# Altium schematic symbol library kmilo17pet-TI_MSP430.SchLib: 1463 symbols (part 47 of 130)
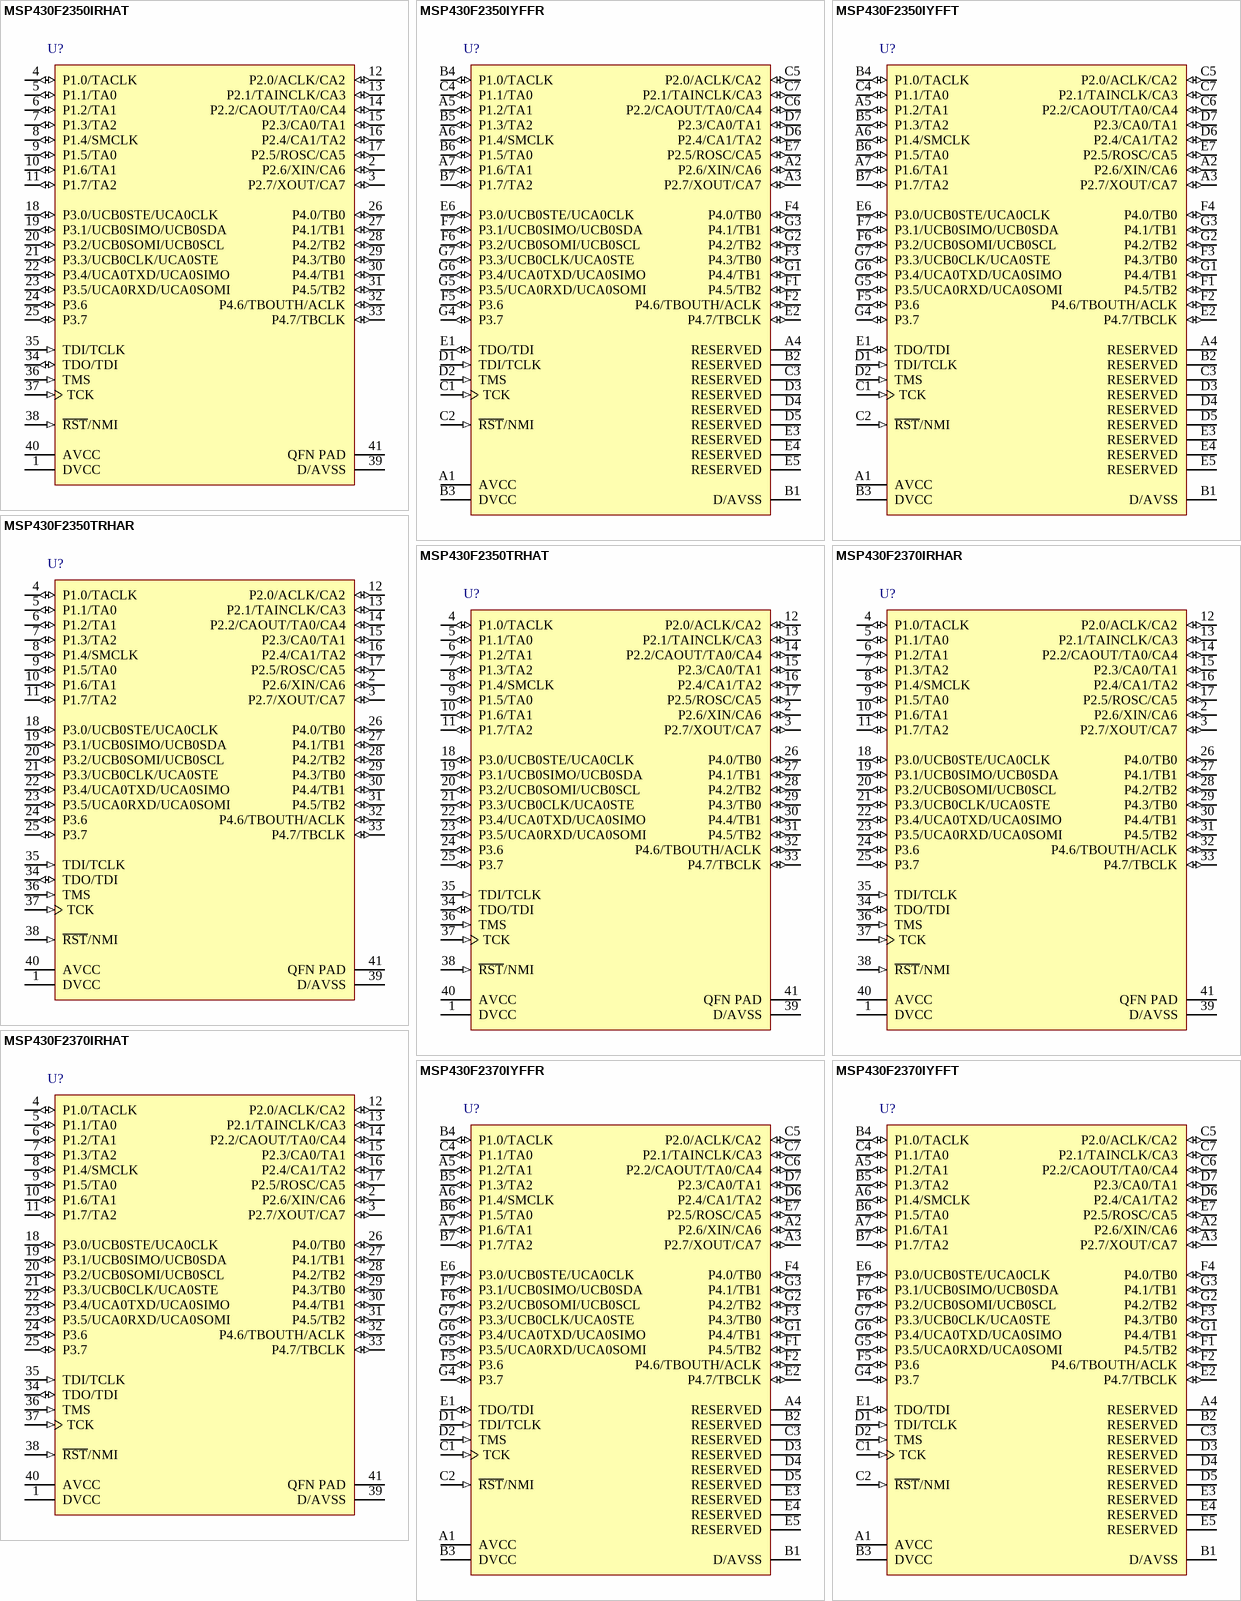
[diagram p260: symbols MSP430F2350IRHAT to MSP430F2370IYFFT]

## MSP430F2350IYFFT
designator U?
16 MHz Mixed Signal Microcontroller with 16 KB Flash, 2048 B SRAM and 32 GPIOs, -40 to 85 degC, 49-pin BGA (YFF), Green (RoHS & no Sb/Br); Manufacturer: Texas Instruments; PartNumber: MSP430F2350IYFFT; ADC: Slope; Brown Out Reset: Yes; Flash(KB): 16; GPIO: 32; Multiplier: 16x16; SRAM(B): 2048; SubFamily: 2 Series, Extended Temp; Timers - 16-bit: 2; USCI_A (UART/LIN/IrDA/SPI): 1; DatasheetVersion: SLAS518E; PackageVersion: 4207625-16/AH; PackageReference: YFF49; PackageDescription: 49-Ball Silicon Grid Array, Body 3.2 x 3.2 mm, Pitch 0.4 mm; Supplier 1: Digi-Key; Supplier Part Number 1: MSP430F2350IYFFR-ND; Supplier 2: Newark; Supplier Part Number 2: 64R0271; Supplier 3: Mouser; Supplier Part Number 3: 595-MSP430F2350IYFFR; Comparators: Yes; Eco-Plan: Green (RoHS & no Sb/Br); Frequency(MHz): 16; USCI_B (I2C & SPI): 1; Watchdog: Yes; Mounting Technology: Surface Mount; ComponentLink1Description: Manufacturer URL; ComponentLink1URL: http://www.ti.com/; ComponentLink2Description: Datasheet; ComponentLink2URL: http://www.ti.com/general/docs/lit/getliterature.tsp?genericPartNumber=MSP430F2350&fileType=pdf; ComponentLink3Description: Package Specification; ComponentLink3URL: http://www.ti.com/lit/ds/symlink/msp430f2350.pdf
footprint TI-YFF49-3200X3200DE (BGA, 49-Balls, Body 3.2x3.2mm, Pitch 0.4mm)
pins: A1 AVCC (power) "Analog supply voltage, positive terminal", A2 P2.6/XIN/CA6 (io), A3 P2.7/XOUT/CA7 (io), A4 RESERVED "BGA package GND balls. Connection to DVSS/AVSS is recommended.", A5 P1.2/TA1 (io), A6 P1.4/SMCLK (io), A7 P1.6/TA1 (io), B1 D/AVSS (power), B2 RESERVED "BGA package GND balls. Connection to DVSS/AVSS is recommended.", B3 DVCC (power) "Digital supply voltage, positive terminal. Supplies all digital parts", B4 P1.0/TACLK (io), B5 P1.3/TA2 (io), B6 P1.5/TA0 (io), B7 P1.7/TA2 (io), C1 TCK (in) "Test clock. TCK is the clock input port for device programming and test.", C2 ~{RST}/NMI (in), C3 RESERVED "BGA package GND balls. Connection to DVSS/AVSS is recommended.", C4 P1.1/TA0 (io), C5 P2.0/ACLK/CA2 (io), C6 P2.2/CAOUT/TA0/CA4 (io), C7 P2.1/TAINCLK/CA3 (io), D1 TDI/TCLK (in), D2 TMS (in) "Test mode select. TMS is used as an input port for device programming and test.", D3 RESERVED "BGA package GND balls. Connection to DVSS/AVSS is recommended.", D4 RESERVED "BGA package GND balls. Connection to DVSS/AVSS is recommended.", D5 RESERVED "BGA package GND balls. Connection to DVSS/AVSS is recommended.", D6 P2.4/CA1/TA2 (io), D7 P2.3/CA0/TA1 (io), E1 TDO/TDI (io), E2 P4.7/TBCLK (io), E3 RESERVED "BGA package GND balls. Connection to DVSS/AVSS is recommended.", E4 RESERVED "BGA package GND balls. Connection to DVSS/AVSS is recommended.", E5 RESERVED "BGA package GND balls. Connection to DVSS/AVSS is recommended.", E6 P3.0/UCB0STE/UCA0CLK (io), E7 P2.5/ROSC/CA5 (io), F1 P4.5/TB2 (io), F2 P4.6/TBOUTH/ACLK (io), F3 P4.3/TB0 (io), F4 P4.0/TB0 (io), F5 P3.6 (io) "General-purpose digital I/O pin", F6 P3.2/UCB0SOMI/UCB0SCL (io), F7 P3.1/UCB0SIMO/UCB0SDA (io), G1 P4.4/TB1 (io), G2 P4.2/TB2 (io), G3 P4.1/TB1 (io), G4 P3.7 (io) "General-purpose digital I/O pin", G5 P3.5/UCA0RXD/UCA0SOMI (io), G6 P3.4/UCA0TXD/UCA0SIMO (io), G7 P3.3/UCB0CLK/UCA0STE (io)

## MSP430F2350TRHAR
designator U?
16 MHz Mixed Signal Microcontroller with 16 KB Flash, 2048 B SRAM and 32 GPIOs, -40 to 105 degC, 40-pin QFN (RHA), Green (RoHS & no Sb/Br); Manufacturer: Texas Instruments; PartNumber: MSP430F2350TRHAR; ADC: Slope; Brown Out Reset: Yes; Flash(KB): 16; GPIO: 32; Multiplier: 16x16; SRAM(B): 2048; SubFamily: 2 Series, Extended Temp; Timers - 16-bit: 2; USCI_A (UART/LIN/IrDA/SPI): 1; DatasheetVersion: SLAS518E; PackageVersion: 4204276/E; PackageReference: RHA40-4150X4150TP; PackageDescription: 40-Pin Plastic Flat Pack, Body 6 x 6 mm, Pitch 0.5 mm; Supplier 1: Digi-Key; Supplier Part Number 1: MSP430F2350IYFFT-ND; Supplier 2: Mouser; Supplier Part Number 2: 595-MSP430F2350IYFFT; Comparators: Yes; Eco-Plan: Green (RoHS & no Sb/Br); Frequency(MHz): 16; USCI_B (I2C & SPI): 1; Watchdog: Yes; Mounting Technology: Surface Mount; Code_JEDEC: MO-220; ComponentLink1Description: Manufacturer URL; ComponentLink1URL: http://www.ti.com/; ComponentLink2Description: Datasheet; ComponentLink2URL: http://www.ti.com/general/docs/lit/getliterature.tsp?genericPartNumber=MSP430F2350&fileType=pdf; ComponentLink3Description: Package Specification; ComponentLink3URL: http://www.ti.com/litv/pdf/mpqf135c
footprint TI-RHA40-4150X4150TP_N (QFN, 40-Leads, Body 6x6mm, Pitch 0.5mm, Thermal Pad 4.15x4.15mm, IPC Medium Density)
pins: 1 DVCC (power) "Digital supply voltage, positive terminal. Supplies all digital parts.", 2 P2.6/XIN/CA6 (io), 3 P2.7/XOUT/CA7 (io), 4 P1.0/TACLK (io), 5 P1.1/TA0 (io), 6 P1.2/TA1 (io), 7 P1.3/TA2 (io), 8 P1.4/SMCLK (io), 9 P1.5/TA0 (io), 10 P1.6/TA1 (io), 11 P1.7/TA2 (io), 12 P2.0/ACLK/CA2 (io), 13 P2.1/TAINCLK/CA3 (io), 14 P2.2/CAOUT/TA0/CA4 (io), 15 P2.3/CA0/TA1 (io), 16 P2.4/CA1/TA2 (io), 17 P2.5/ROSC/CA5 (io), 18 P3.0/UCB0STE/UCA0CLK (io), 19 P3.1/UCB0SIMO/UCB0SDA (io), 20 P3.2/UCB0SOMI/UCB0SCL (io), 21 P3.3/UCB0CLK/UCA0STE (io), 22 P3.4/UCA0TXD/UCA0SIMO (io), 23 P3.5/UCA0RXD/UCA0SOMI (io), 24 P3.6 (io) "General-purpose digital I/O pin", 25 P3.7 (io) "General-purpose digital I/O pin", 26 P4.0/TB0 (io), 27 P4.1/TB1 (io), 28 P4.2/TB2 (io), 29 P4.3/TB0 (io), 30 P4.4/TB1 (io), 31 P4.5/TB2 (io), 32 P4.6/TBOUTH/ACLK (io), 33 P4.7/TBCLK (io), 34 TDO/TDI (io), 35 TDI/TCLK (in), 36 TMS (in) "Test mode select. TMS is used as an input port for device programming and test.", 37 TCK (in) "Test clock. TCK is the clock input port for device programming and test.", 38 ~{RST}/NMI (in), 39 D/AVSS (power), 40 AVCC (power) "Analog supply voltage, positive terminal", 41 QFN PAD (power) "QFN package pad. Connection to D/AVSS recommended."

## MSP430F2350TRHAT
designator U?
16 MHz Mixed Signal Microcontroller with 16 KB Flash, 2048 B SRAM and 32 GPIOs, -40 to 105 degC, 40-pin QFN (RHA), Green (RoHS & no Sb/Br); Manufacturer: Texas Instruments; PartNumber: MSP430F2350TRHAT; ADC: Slope; Brown Out Reset: Yes; Flash(KB): 16; GPIO: 32; Multiplier: 16x16; SRAM(B): 2048; SubFamily: 2 Series, Extended Temp; Timers - 16-bit: 2; USCI_A (UART/LIN/IrDA/SPI): 1; DatasheetVersion: SLAS518E; PackageVersion: 4204276/E; PackageReference: RHA40-4150X4150TP; PackageDescription: 40-Pin Plastic Flat Pack, Body 6 x 6 mm, Pitch 0.5 mm; Supplier 1: Digi-Key; Supplier Part Number 1: MSP430F2350TRHAR-ND; Supplier 2: Newark; Supplier Part Number 2: 45M9660; Supplier 3: Mouser; Supplier Part Number 3: 595-MSP430F2350TRHAR; Comparators: Yes; Eco-Plan: Green (RoHS & no Sb/Br); Frequency(MHz): 16; USCI_B (I2C & SPI): 1; Watchdog: Yes; Mounting Technology: Surface Mount; Code_JEDEC: MO-220; ComponentLink1Description: Manufacturer URL; ComponentLink1URL: http://www.ti.com/; ComponentLink2Description: Datasheet; ComponentLink2URL: http://www.ti.com/general/docs/lit/getliterature.tsp?genericPartNumber=MSP430F2350&fileType=pdf; ComponentLink3Description: Package Specification; ComponentLink3URL: http://www.ti.com/litv/pdf/mpqf135c
footprint TI-RHA40-4150X4150TP_N (QFN, 40-Leads, Body 6x6mm, Pitch 0.5mm, Thermal Pad 4.15x4.15mm, IPC Medium Density)
pins: 1 DVCC (power) "Digital supply voltage, positive terminal. Supplies all digital parts.", 2 P2.6/XIN/CA6 (io), 3 P2.7/XOUT/CA7 (io), 4 P1.0/TACLK (io), 5 P1.1/TA0 (io), 6 P1.2/TA1 (io), 7 P1.3/TA2 (io), 8 P1.4/SMCLK (io), 9 P1.5/TA0 (io), 10 P1.6/TA1 (io), 11 P1.7/TA2 (io), 12 P2.0/ACLK/CA2 (io), 13 P2.1/TAINCLK/CA3 (io), 14 P2.2/CAOUT/TA0/CA4 (io), 15 P2.3/CA0/TA1 (io), 16 P2.4/CA1/TA2 (io), 17 P2.5/ROSC/CA5 (io), 18 P3.0/UCB0STE/UCA0CLK (io), 19 P3.1/UCB0SIMO/UCB0SDA (io), 20 P3.2/UCB0SOMI/UCB0SCL (io), 21 P3.3/UCB0CLK/UCA0STE (io), 22 P3.4/UCA0TXD/UCA0SIMO (io), 23 P3.5/UCA0RXD/UCA0SOMI (io), 24 P3.6 (io) "General-purpose digital I/O pin", 25 P3.7 (io) "General-purpose digital I/O pin", 26 P4.0/TB0 (io), 27 P4.1/TB1 (io), 28 P4.2/TB2 (io), 29 P4.3/TB0 (io), 30 P4.4/TB1 (io), 31 P4.5/TB2 (io), 32 P4.6/TBOUTH/ACLK (io), 33 P4.7/TBCLK (io), 34 TDO/TDI (io), 35 TDI/TCLK (in), 36 TMS (in) "Test mode select. TMS is used as an input port for device programming and test.", 37 TCK (in) "Test clock. TCK is the clock input port for device programming and test.", 38 ~{RST}/NMI (in), 39 D/AVSS (power), 40 AVCC (power) "Analog supply voltage, positive terminal", 41 QFN PAD (power) "QFN package pad. Connection to D/AVSS recommended."

## MSP430F2370IRHAR
designator U?
16 MHz Mixed Signal Microcontroller with 32 KB Flash, 2048 B SRAM and 32 GPIOs, -40 to 85 degC, 40-pin QFN (RHA), Green (RoHS & no Sb/Br); Manufacturer: Texas Instruments; PartNumber: MSP430F2370IRHAR; ADC: Slope; Brown Out Reset: Yes; Flash(KB): 32; Frequency(MHz): 16; Multiplier: 16x16; SRAM(B): 2048; SubFamily: 2 Series; Timers - 16-bit: 2; USCI_A (UART/LIN/IrDA/SPI): 1; DatasheetVersion: SLAS518E; PackageVersion: 4204276/E; PackageReference: RHA40-4150X4150TP; PackageDescription: 40-Pin Plastic Flat Pack, Body 6 x 6 mm, Pitch 0.5 mm; Supplier 1: Digi-Key; Supplier Part Number 1: 296-26214-2-ND; Supplier 2: Digi-Key; Supplier Part Number 2: 296-26214-1-ND; Supplier 3: Digi-Key; Supplier Part Number 3: 296-26214-6-ND; Supplier 4: Farnell; Supplier Part Number 4: 1649433; Supplier 5: Newark; Supplier Part Number 5: 65M1700; Supplier 6: Mouser; Supplier Part Number 6: 595-MSP430F235TRGCT; Comparators: Yes; Eco-Plan: Green (RoHS & no Sb/Br); GPIO: 32; USCI_B (I2C & SPI): 1; Watchdog: Yes; Mounting Technology: Surface Mount; Code_JEDEC: MO-220; ComponentLink1Description: Manufacturer URL; ComponentLink1URL: http://www.ti.com/; ComponentLink2Description: Datasheet; ComponentLink2URL: http://www.ti.com/general/docs/lit/getliterature.tsp?genericPartNumber=MSP430F2370&fileType=pdf; ComponentLink3Description: Package Specification; ComponentLink3URL: http://www.ti.com/litv/pdf/mpqf135c
footprint TI-RHA40-4150X4150TP_N (QFN, 40-Leads, Body 6x6mm, Pitch 0.5mm, Thermal Pad 4.15x4.15mm, IPC Medium Density)
pins: 1 DVCC (power) "Digital supply voltage, positive terminal. Supplies all digital parts.", 2 P2.6/XIN/CA6 (io), 3 P2.7/XOUT/CA7 (io), 4 P1.0/TACLK (io), 5 P1.1/TA0 (io), 6 P1.2/TA1 (io), 7 P1.3/TA2 (io), 8 P1.4/SMCLK (io), 9 P1.5/TA0 (io), 10 P1.6/TA1 (io), 11 P1.7/TA2 (io), 12 P2.0/ACLK/CA2 (io), 13 P2.1/TAINCLK/CA3 (io), 14 P2.2/CAOUT/TA0/CA4 (io), 15 P2.3/CA0/TA1 (io), 16 P2.4/CA1/TA2 (io), 17 P2.5/ROSC/CA5 (io), 18 P3.0/UCB0STE/UCA0CLK (io), 19 P3.1/UCB0SIMO/UCB0SDA (io), 20 P3.2/UCB0SOMI/UCB0SCL (io), 21 P3.3/UCB0CLK/UCA0STE (io), 22 P3.4/UCA0TXD/UCA0SIMO (io), 23 P3.5/UCA0RXD/UCA0SOMI (io), 24 P3.6 (io) "General-purpose digital I/O pin", 25 P3.7 (io) "General-purpose digital I/O pin", 26 P4.0/TB0 (io), 27 P4.1/TB1 (io), 28 P4.2/TB2 (io), 29 P4.3/TB0 (io), 30 P4.4/TB1 (io), 31 P4.5/TB2 (io), 32 P4.6/TBOUTH/ACLK (io), 33 P4.7/TBCLK (io), 34 TDO/TDI (io), 35 TDI/TCLK (in), 36 TMS (in) "Test mode select. TMS is used as an input port for device programming and test.", 37 TCK (in) "Test clock. TCK is the clock input port for device programming and test.", 38 ~{RST}/NMI (in), 39 D/AVSS (power), 40 AVCC (power) "Analog supply voltage, positive terminal", 41 QFN PAD (power) "QFN package pad. Connection to D/AVSS recommended."

## MSP430F2370IRHAT
designator U?
16 MHz Mixed Signal Microcontroller with 32 KB Flash, 2048 B SRAM and 32 GPIOs, -40 to 85 degC, 40-pin QFN (RHA), Green (RoHS & no Sb/Br); Manufacturer: Texas Instruments; PartNumber: MSP430F2370IRHAT; ADC: Slope; Brown Out Reset: Yes; Flash(KB): 32; Frequency(MHz): 16; Multiplier: 16x16; SRAM(B): 2048; SubFamily: 2 Series; Timers - 16-bit: 2; USCI_A (UART/LIN/IrDA/SPI): 1; DatasheetVersion: SLAS518E; PackageVersion: 4204276/E; PackageReference: RHA40-4150X4150TP; PackageDescription: 40-Pin Plastic Flat Pack, Body 6 x 6 mm, Pitch 0.5 mm; Supplier 1: Digi-Key; Supplier Part Number 1: 296-24340-2-ND; Supplier 2: Digi-Key; Supplier Part Number 2: 296-24340-1-ND; Supplier 3: Digi-Key; Supplier Part Number 3: 296-24340-6-ND; Supplier 4: Farnell; Supplier Part Number 4: 1848736; Supplier 5: Newark; Supplier Part Number 5: 82R7755; Supplier 6: Newark; Supplier Part Number 6: 45M9662; Supplier 7: Mouser; Supplier Part Number 7: 595-MSP430F2370IRHAR; Comparators: Yes; Eco-Plan: Green (RoHS & no Sb/Br); GPIO: 32; USCI_B (I2C & SPI): 1; Watchdog: Yes; Mounting Technology: Surface Mount; Code_JEDEC: MO-220; ComponentLink1Description: Manufacturer URL; ComponentLink1URL: http://www.ti.com/; ComponentLink2Description: Datasheet; ComponentLink2URL: http://www.ti.com/general/docs/lit/getliterature.tsp?genericPartNumber=MSP430F2370&fileType=pdf; ComponentLink3Description: Package Specification; ComponentLink3URL: http://www.ti.com/litv/pdf/mpqf135c
footprint TI-RHA40-4150X4150TP_N (QFN, 40-Leads, Body 6x6mm, Pitch 0.5mm, Thermal Pad 4.15x4.15mm, IPC Medium Density)
pins: 1 DVCC (power) "Digital supply voltage, positive terminal. Supplies all digital parts.", 2 P2.6/XIN/CA6 (io), 3 P2.7/XOUT/CA7 (io), 4 P1.0/TACLK (io), 5 P1.1/TA0 (io), 6 P1.2/TA1 (io), 7 P1.3/TA2 (io), 8 P1.4/SMCLK (io), 9 P1.5/TA0 (io), 10 P1.6/TA1 (io), 11 P1.7/TA2 (io), 12 P2.0/ACLK/CA2 (io), 13 P2.1/TAINCLK/CA3 (io), 14 P2.2/CAOUT/TA0/CA4 (io), 15 P2.3/CA0/TA1 (io), 16 P2.4/CA1/TA2 (io), 17 P2.5/ROSC/CA5 (io), 18 P3.0/UCB0STE/UCA0CLK (io), 19 P3.1/UCB0SIMO/UCB0SDA (io), 20 P3.2/UCB0SOMI/UCB0SCL (io), 21 P3.3/UCB0CLK/UCA0STE (io), 22 P3.4/UCA0TXD/UCA0SIMO (io), 23 P3.5/UCA0RXD/UCA0SOMI (io), 24 P3.6 (io) "General-purpose digital I/O pin", 25 P3.7 (io) "General-purpose digital I/O pin", 26 P4.0/TB0 (io), 27 P4.1/TB1 (io), 28 P4.2/TB2 (io), 29 P4.3/TB0 (io), 30 P4.4/TB1 (io), 31 P4.5/TB2 (io), 32 P4.6/TBOUTH/ACLK (io), 33 P4.7/TBCLK (io), 34 TDO/TDI (io), 35 TDI/TCLK (in), 36 TMS (in) "Test mode select. TMS is used as an input port for device programming and test.", 37 TCK (in) "Test clock. TCK is the clock input port for device programming and test.", 38 ~{RST}/NMI (in), 39 D/AVSS (power), 40 AVCC (power) "Analog supply voltage, positive terminal", 41 QFN PAD (power) "QFN package pad. Connection to D/AVSS recommended."

## MSP430F2370IYFFR
designator U?
16 MHz Mixed Signal Microcontroller with 32 KB Flash, 2048 B SRAM and 32 GPIOs, -40 to 85 degC, 49-pin BGA (YFF), Green (RoHS & no Sb/Br); Manufacturer: Texas Instruments; PartNumber: MSP430F2370IYFFR; ADC: Slope; Brown Out Reset: Yes; Flash(KB): 32; Frequency(MHz): 16; Multiplier: 16x16; SRAM(B): 2048; SubFamily: 2 Series; Timers - 16-bit: 2; USCI_A (UART/LIN/IrDA/SPI): 1; DatasheetVersion: SLAS518E; PackageVersion: 4207625-16/AH; PackageReference: YFF49; PackageDescription: 49-Ball Silicon Grid Array, Body 3.2 x 3.2 mm, Pitch 0.4 mm; Supplier 1: Digi-Key; Supplier Part Number 1: 296-21750-2-ND; Supplier 2: Digi-Key; Supplier Part Number 2: 296-21750-1-ND; Supplier 3: Digi-Key; Supplier Part Number 3: 296-21750-6-ND; Supplier 4: Farnell; Supplier Part Number 4: 1753298; Supplier 5: Farnell; Supplier Part Number 5: 1887159; Supplier 6: Newark; Supplier Part Number 6: 45M9663; Supplier 7: Mouser; Supplier Part Number 7: 595-MSP430F2370IRHAT; Comparators: Yes; Eco-Plan: Green (RoHS & no Sb/Br); GPIO: 32; USCI_B (I2C & SPI): 1; Watchdog: Yes; Mounting Technology: Surface Mount; ComponentLink1Description: Manufacturer URL; ComponentLink1URL: http://www.ti.com/; ComponentLink2Description: Datasheet; ComponentLink2URL: http://www.ti.com/general/docs/lit/getliterature.tsp?genericPartNumber=MSP430F2370&fileType=pdf; ComponentLink3Description: Package Specification; ComponentLink3URL: http://www.ti.com/lit/ds/symlink/msp430f2350.pdf
footprint TI-YFF49-3200X3200DE (BGA, 49-Balls, Body 3.2x3.2mm, Pitch 0.4mm)
pins: A1 AVCC (power) "Analog supply voltage, positive terminal", A2 P2.6/XIN/CA6 (io), A3 P2.7/XOUT/CA7 (io), A4 RESERVED "BGA package GND balls. Connection to DVSS/AVSS is recommended.", A5 P1.2/TA1 (io), A6 P1.4/SMCLK (io), A7 P1.6/TA1 (io), B1 D/AVSS (power), B2 RESERVED "BGA package GND balls. Connection to DVSS/AVSS is recommended.", B3 DVCC (power) "Digital supply voltage, positive terminal. Supplies all digital parts", B4 P1.0/TACLK (io), B5 P1.3/TA2 (io), B6 P1.5/TA0 (io), B7 P1.7/TA2 (io), C1 TCK (in) "Test clock. TCK is the clock input port for device programming and test.", C2 ~{RST}/NMI (in), C3 RESERVED "BGA package GND balls. Connection to DVSS/AVSS is recommended.", C4 P1.1/TA0 (io), C5 P2.0/ACLK/CA2 (io), C6 P2.2/CAOUT/TA0/CA4 (io), C7 P2.1/TAINCLK/CA3 (io), D1 TDI/TCLK (in), D2 TMS (in) "Test mode select. TMS is used as an input port for device programming and test.", D3 RESERVED "BGA package GND balls. Connection to DVSS/AVSS is recommended.", D4 RESERVED "BGA package GND balls. Connection to DVSS/AVSS is recommended.", D5 RESERVED "BGA package GND balls. Connection to DVSS/AVSS is recommended.", D6 P2.4/CA1/TA2 (io), D7 P2.3/CA0/TA1 (io), E1 TDO/TDI (io), E2 P4.7/TBCLK (io), E3 RESERVED "BGA package GND balls. Connection to DVSS/AVSS is recommended.", E4 RESERVED "BGA package GND balls. Connection to DVSS/AVSS is recommended.", E5 RESERVED "BGA package GND balls. Connection to DVSS/AVSS is recommended.", E6 P3.0/UCB0STE/UCA0CLK (io), E7 P2.5/ROSC/CA5 (io), F1 P4.5/TB2 (io), F2 P4.6/TBOUTH/ACLK (io), F3 P4.3/TB0 (io), F4 P4.0/TB0 (io), F5 P3.6 (io) "General-purpose digital I/O pin", F6 P3.2/UCB0SOMI/UCB0SCL (io), F7 P3.1/UCB0SIMO/UCB0SDA (io), G1 P4.4/TB1 (io), G2 P4.2/TB2 (io), G3 P4.1/TB1 (io), G4 P3.7 (io) "General-purpose digital I/O pin", G5 P3.5/UCA0RXD/UCA0SOMI (io), G6 P3.4/UCA0TXD/UCA0SIMO (io), G7 P3.3/UCB0CLK/UCA0STE (io)

## MSP430F2370IYFFT
designator U?
16 MHz Mixed Signal Microcontroller with 32 KB Flash, 2048 B SRAM and 32 GPIOs, -40 to 85 degC, 49-pin BGA (YFF), Green (RoHS & no Sb/Br); Manufacturer: Texas Instruments; PartNumber: MSP430F2370IYFFT; ADC: Slope; Brown Out Reset: Yes; Flash(KB): 32; Frequency(MHz): 16; Multiplier: 16x16; SRAM(B): 2048; SubFamily: 2 Series; Timers - 16-bit: 2; USCI_A (UART/LIN/IrDA/SPI): 1; DatasheetVersion: SLAS518E; PackageVersion: 4207625-16/AH; PackageReference: YFF49; PackageDescription: 49-Ball Silicon Grid Array, Body 3.2 x 3.2 mm, Pitch 0.4 mm; Supplier 1: Digi-Key; Supplier Part Number 1: 296-24336-2-ND; Supplier 2: Digi-Key; Supplier Part Number 2: 296-24336-1-ND; Supplier 3: Digi-Key; Supplier Part Number 3: 296-24336-6-ND; Supplier 4: Farnell; Supplier Part Number 4: 1903432; Supplier 5: Mouser; Supplier Part Number 5: 595-MSP430F2370IYFFR; Comparators: Yes; Eco-Plan: Green (RoHS & no Sb/Br); GPIO: 32; USCI_B (I2C & SPI): 1; Watchdog: Yes; Mounting Technology: Surface Mount; ComponentLink1Description: Manufacturer URL; ComponentLink1URL: http://www.ti.com/; ComponentLink2Description: Datasheet; ComponentLink2URL: http://www.ti.com/general/docs/lit/getliterature.tsp?genericPartNumber=MSP430F2370&fileType=pdf; ComponentLink3Description: Package Specification; ComponentLink3URL: http://www.ti.com/lit/ds/symlink/msp430f2350.pdf
footprint TI-YFF49-3200X3200DE (BGA, 49-Balls, Body 3.2x3.2mm, Pitch 0.4mm)
pins: A1 AVCC (power) "Analog supply voltage, positive terminal", A2 P2.6/XIN/CA6 (io), A3 P2.7/XOUT/CA7 (io), A4 RESERVED "BGA package GND balls. Connection to DVSS/AVSS is recommended.", A5 P1.2/TA1 (io), A6 P1.4/SMCLK (io), A7 P1.6/TA1 (io), B1 D/AVSS (power), B2 RESERVED "BGA package GND balls. Connection to DVSS/AVSS is recommended.", B3 DVCC (power) "Digital supply voltage, positive terminal. Supplies all digital parts", B4 P1.0/TACLK (io), B5 P1.3/TA2 (io), B6 P1.5/TA0 (io), B7 P1.7/TA2 (io), C1 TCK (in) "Test clock. TCK is the clock input port for device programming and test.", C2 ~{RST}/NMI (in), C3 RESERVED "BGA package GND balls. Connection to DVSS/AVSS is recommended.", C4 P1.1/TA0 (io), C5 P2.0/ACLK/CA2 (io), C6 P2.2/CAOUT/TA0/CA4 (io), C7 P2.1/TAINCLK/CA3 (io), D1 TDI/TCLK (in), D2 TMS (in) "Test mode select. TMS is used as an input port for device programming and test.", D3 RESERVED "BGA package GND balls. Connection to DVSS/AVSS is recommended.", D4 RESERVED "BGA package GND balls. Connection to DVSS/AVSS is recommended.", D5 RESERVED "BGA package GND balls. Connection to DVSS/AVSS is recommended.", D6 P2.4/CA1/TA2 (io), D7 P2.3/CA0/TA1 (io), E1 TDO/TDI (io), E2 P4.7/TBCLK (io), E3 RESERVED "BGA package GND balls. Connection to DVSS/AVSS is recommended.", E4 RESERVED "BGA package GND balls. Connection to DVSS/AVSS is recommended.", E5 RESERVED "BGA package GND balls. Connection to DVSS/AVSS is recommended.", E6 P3.0/UCB0STE/UCA0CLK (io), E7 P2.5/ROSC/CA5 (io), F1 P4.5/TB2 (io), F2 P4.6/TBOUTH/ACLK (io), F3 P4.3/TB0 (io), F4 P4.0/TB0 (io), F5 P3.6 (io) "General-purpose digital I/O pin", F6 P3.2/UCB0SOMI/UCB0SCL (io), F7 P3.1/UCB0SIMO/UCB0SDA (io), G1 P4.4/TB1 (io), G2 P4.2/TB2 (io), G3 P4.1/TB1 (io), G4 P3.7 (io) "General-purpose digital I/O pin", G5 P3.5/UCA0RXD/UCA0SOMI (io), G6 P3.4/UCA0TXD/UCA0SIMO (io), G7 P3.3/UCB0CLK/UCA0STE (io)

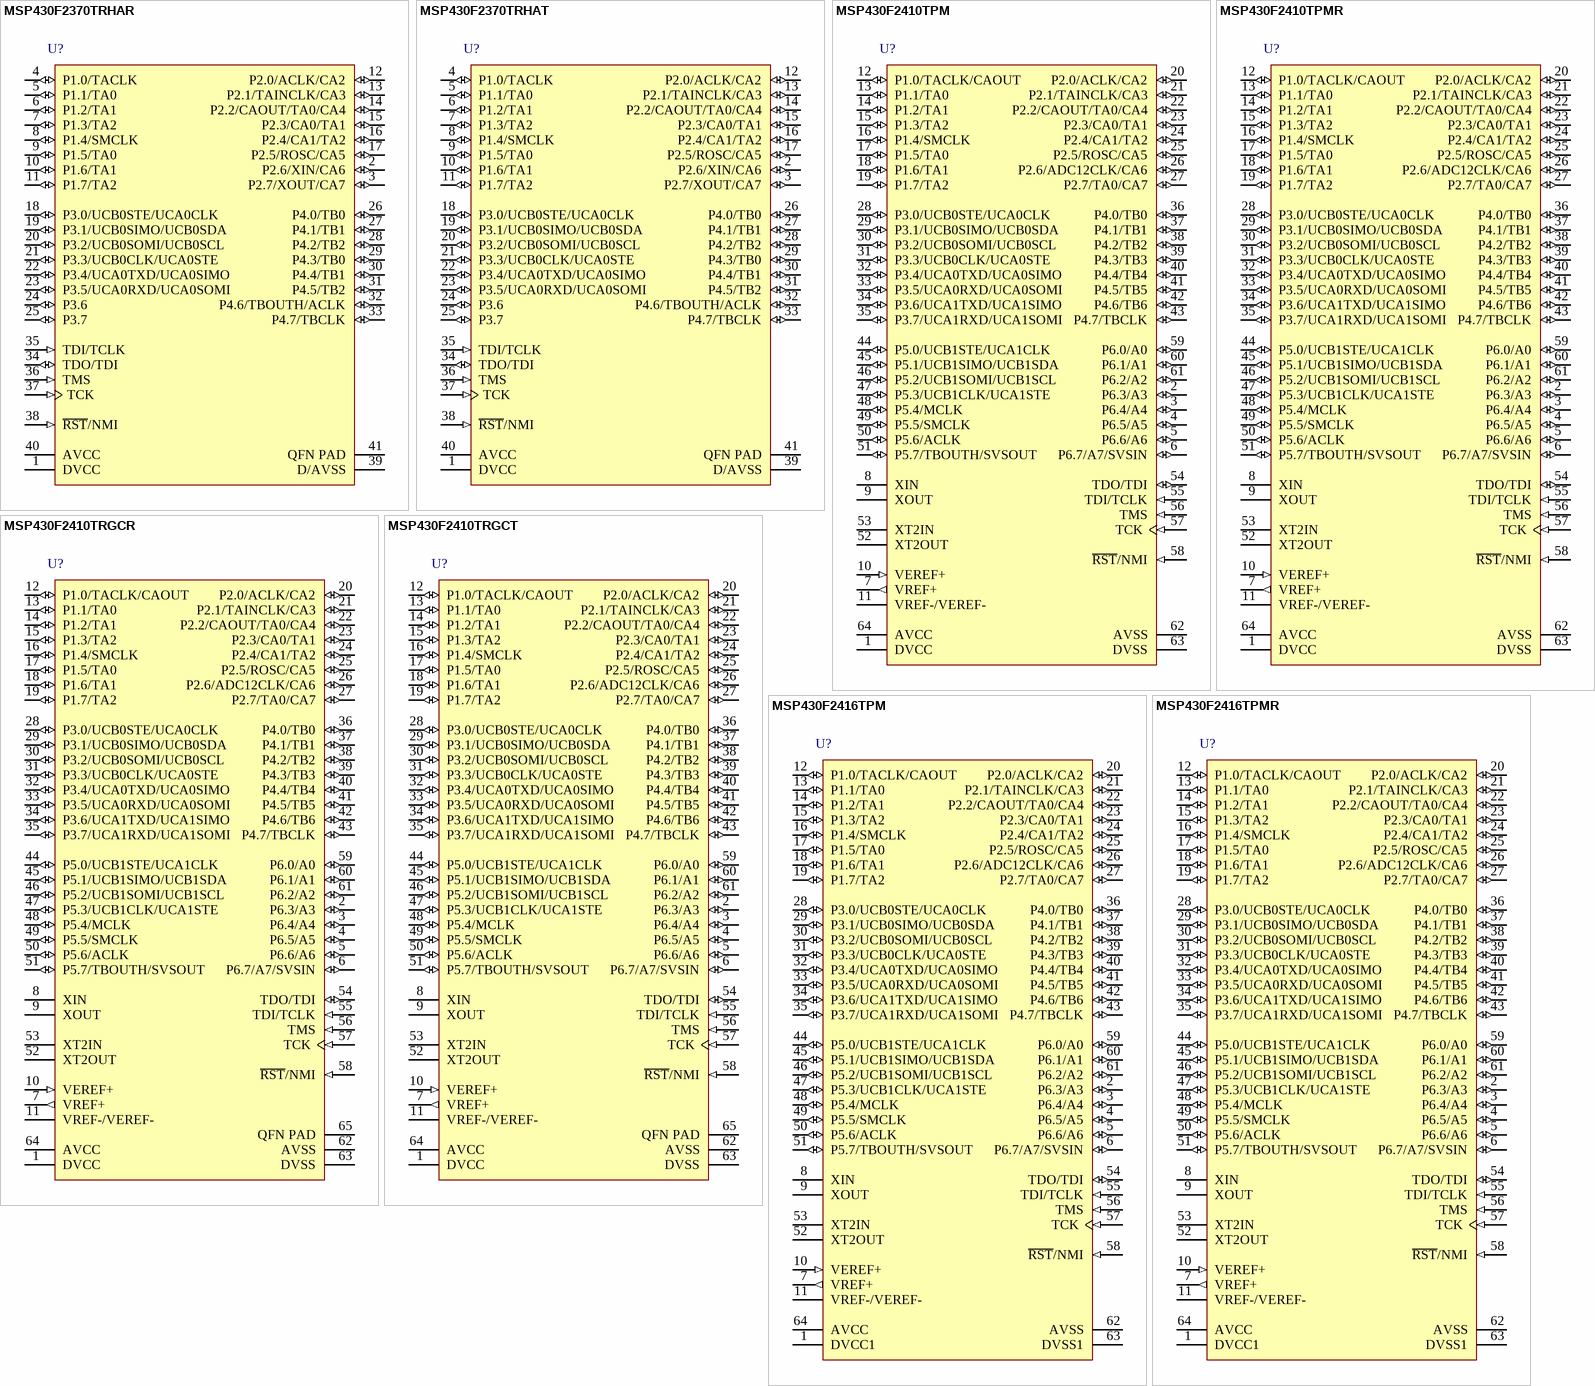
[diagram p69: symbols MSP430F2370TRHAR to MSP430F2416TPMR]

## MSP430F2370TRHAR
designator U?
16 MHz Mixed Signal Microcontroller with 32 KB Flash, 2048 B SRAM and 32 GPIOs, -40 to 105 degC, 40-pin QFN (RHA), Green (RoHS & no Sb/Br); Manufacturer: Texas Instruments; PartNumber: MSP430F2370TRHAR; ADC: Slope; Brown Out Reset: Yes; Flash(KB): 32; Frequency(MHz): 16; Multiplier: 16x16; SRAM(B): 2048; SubFamily: 2 Series; Timers - 16-bit: 2; USCI_A (UART/LIN/IrDA/SPI): 1; DatasheetVersion: SLAS518E; PackageVersion: 4204276/E; PackageReference: RHA40-4150X4150TP; PackageDescription: 40-Pin Plastic Flat Pack, Body 6 x 6 mm, Pitch 0.5 mm; Supplier 1: Digi-Key; Supplier Part Number 1: 296-24337-2-ND; Supplier 2: Digi-Key; Supplier Part Number 2: 296-24337-1-ND; Supplier 3: Digi-Key; Supplier Part Number 3: 296-24337-6-ND; Supplier 4: Farnell; Supplier Part Number 4: 1753299; Supplier 5: Newark; Supplier Part Number 5: 93R5555; Supplier 6: Mouser; Supplier Part Number 6: 595-MSP430F2370IYFFT; Comparators: Yes; Eco-Plan: Green (RoHS & no Sb/Br); GPIO: 32; USCI_B (I2C & SPI): 1; Watchdog: Yes; Mounting Technology: Surface Mount; Code_JEDEC: MO-220; ComponentLink1Description: Manufacturer URL; ComponentLink1URL: http://www.ti.com/; ComponentLink2Description: Datasheet; ComponentLink2URL: http://www.ti.com/general/docs/lit/getliterature.tsp?genericPartNumber=MSP430F2370&fileType=pdf; ComponentLink3Description: Package Specification; ComponentLink3URL: http://www.ti.com/litv/pdf/mpqf135c
footprint TI-RHA40-4150X4150TP_N (QFN, 40-Leads, Body 6x6mm, Pitch 0.5mm, Thermal Pad 4.15x4.15mm, IPC Medium Density)
pins: 1 DVCC (power) "Digital supply voltage, positive terminal. Supplies all digital parts.", 2 P2.6/XIN/CA6 (io), 3 P2.7/XOUT/CA7 (io), 4 P1.0/TACLK (io), 5 P1.1/TA0 (io), 6 P1.2/TA1 (io), 7 P1.3/TA2 (io), 8 P1.4/SMCLK (io), 9 P1.5/TA0 (io), 10 P1.6/TA1 (io), 11 P1.7/TA2 (io), 12 P2.0/ACLK/CA2 (io), 13 P2.1/TAINCLK/CA3 (io), 14 P2.2/CAOUT/TA0/CA4 (io), 15 P2.3/CA0/TA1 (io), 16 P2.4/CA1/TA2 (io), 17 P2.5/ROSC/CA5 (io), 18 P3.0/UCB0STE/UCA0CLK (io), 19 P3.1/UCB0SIMO/UCB0SDA (io), 20 P3.2/UCB0SOMI/UCB0SCL (io), 21 P3.3/UCB0CLK/UCA0STE (io), 22 P3.4/UCA0TXD/UCA0SIMO (io), 23 P3.5/UCA0RXD/UCA0SOMI (io), 24 P3.6 (io) "General-purpose digital I/O pin", 25 P3.7 (io) "General-purpose digital I/O pin", 26 P4.0/TB0 (io), 27 P4.1/TB1 (io), 28 P4.2/TB2 (io), 29 P4.3/TB0 (io), 30 P4.4/TB1 (io), 31 P4.5/TB2 (io), 32 P4.6/TBOUTH/ACLK (io), 33 P4.7/TBCLK (io), 34 TDO/TDI (io), 35 TDI/TCLK (in), 36 TMS (in) "Test mode select. TMS is used as an input port for device programming and test.", 37 TCK (in) "Test clock. TCK is the clock input port for device programming and test.", 38 ~{RST}/NMI (in), 39 D/AVSS (power), 40 AVCC (power) "Analog supply voltage, positive terminal", 41 QFN PAD (power) "QFN package pad. Connection to D/AVSS recommended."

## MSP430F2370TRHAT
designator U?
16 MHz Mixed Signal Microcontroller with 32 KB Flash, 2048 B SRAM and 32 GPIOs, -40 to 105 degC, 40-pin QFN (RHA), Green (RoHS & no Sb/Br); Manufacturer: Texas Instruments; PartNumber: MSP430F2370TRHAT; ADC: Slope; Brown Out Reset: Yes; Flash(KB): 32; Frequency(MHz): 16; Multiplier: 16x16; SRAM(B): 2048; SubFamily: 2 Series; Timers - 16-bit: 2; USCI_A (UART/LIN/IrDA/SPI): 1; DatasheetVersion: SLAS518E; PackageVersion: 4204276/E; PackageReference: RHA40-4150X4150TP; PackageDescription: 40-Pin Plastic Flat Pack, Body 6 x 6 mm, Pitch 0.5 mm; Supplier 1: Digi-Key; Supplier Part Number 1: MSP430F2370TRHAR-ND; Supplier 2: Mouser; Supplier Part Number 2: 595-MSP430F2370TRHAR; Comparators: Yes; Eco-Plan: Green (RoHS & no Sb/Br); GPIO: 32; USCI_B (I2C & SPI): 1; Watchdog: Yes; Mounting Technology: Surface Mount; Code_JEDEC: MO-220; ComponentLink1Description: Manufacturer URL; ComponentLink1URL: http://www.ti.com/; ComponentLink2Description: Datasheet; ComponentLink2URL: http://www.ti.com/general/docs/lit/getliterature.tsp?genericPartNumber=MSP430F2370&fileType=pdf; ComponentLink3Description: Package Specification; ComponentLink3URL: http://www.ti.com/litv/pdf/mpqf135c
footprint TI-RHA40-4150X4150TP_N (QFN, 40-Leads, Body 6x6mm, Pitch 0.5mm, Thermal Pad 4.15x4.15mm, IPC Medium Density)
pins: 1 DVCC (power) "Digital supply voltage, positive terminal. Supplies all digital parts.", 2 P2.6/XIN/CA6 (io), 3 P2.7/XOUT/CA7 (io), 4 P1.0/TACLK (io), 5 P1.1/TA0 (io), 6 P1.2/TA1 (io), 7 P1.3/TA2 (io), 8 P1.4/SMCLK (io), 9 P1.5/TA0 (io), 10 P1.6/TA1 (io), 11 P1.7/TA2 (io), 12 P2.0/ACLK/CA2 (io), 13 P2.1/TAINCLK/CA3 (io), 14 P2.2/CAOUT/TA0/CA4 (io), 15 P2.3/CA0/TA1 (io), 16 P2.4/CA1/TA2 (io), 17 P2.5/ROSC/CA5 (io), 18 P3.0/UCB0STE/UCA0CLK (io), 19 P3.1/UCB0SIMO/UCB0SDA (io), 20 P3.2/UCB0SOMI/UCB0SCL (io), 21 P3.3/UCB0CLK/UCA0STE (io), 22 P3.4/UCA0TXD/UCA0SIMO (io), 23 P3.5/UCA0RXD/UCA0SOMI (io), 24 P3.6 (io) "General-purpose digital I/O pin", 25 P3.7 (io) "General-purpose digital I/O pin", 26 P4.0/TB0 (io), 27 P4.1/TB1 (io), 28 P4.2/TB2 (io), 29 P4.3/TB0 (io), 30 P4.4/TB1 (io), 31 P4.5/TB2 (io), 32 P4.6/TBOUTH/ACLK (io), 33 P4.7/TBCLK (io), 34 TDO/TDI (io), 35 TDI/TCLK (in), 36 TMS (in) "Test mode select. TMS is used as an input port for device programming and test.", 37 TCK (in) "Test clock. TCK is the clock input port for device programming and test.", 38 ~{RST}/NMI (in), 39 D/AVSS (power), 40 AVCC (power) "Analog supply voltage, positive terminal", 41 QFN PAD (power) "QFN package pad. Connection to D/AVSS recommended."

## MSP430F2410TPM
designator U?
16 MHz Mixed Signal Microcontroller with 56 KB Flash, 4096 B SRAM and 48 GPIOs, -40 to 105 degC, 64-pin QFP (PM), Green (RoHS & no Sb/Br); Manufacturer: Texas Instruments; PartNumber: MSP430F2410TPM; ADC: 12-bit SAR; ADC Channels: 8; Brown Out Reset: Yes; Flash(KB): 56; Frequency(MHz): 16; GPIO: 48; Multiplier: 16x16; SRAM(B): 4096; SubFamily: 2 Series, Extended Temp; Timers - 16-bit: 2; DatasheetVersion: SLAS547H; PackageVersion: 4040152/C; PackageReference: PM64; PackageDescription: 64-Pin Plastic Quad Flat Pack, Body 10 x 10 mm, Pitch 0.5 mm; Supplier 1: Digi-Key; Supplier Part Number 1: 296-21751-2-ND; Supplier 2: Digi-Key; Supplier Part Number 2: 296-21751-1-ND; Supplier 3: Digi-Key; Supplier Part Number 3: 296-21751-6-ND; Supplier 4: Farnell; Supplier Part Number 4: 1649434; Supplier 5: Newark; Supplier Part Number 5: 45M9665; Supplier 6: Mouser; Supplier Part Number 6: 595-MSP430F2370TRHAT; Comparators: Yes; Eco-Plan: Green (RoHS & no Sb/Br); SVS: Yes; USCI_A (UART/LIN/IrDA/SPI): 2; USCI_B (I2C & SPI): 2; Watchdog: Yes; Mounting Technology: Surface Mount; Code_JEDEC: MS-026; ComponentLink1Description: Manufacturer URL; ComponentLink1URL: http://www.ti.com/; ComponentLink2Description: Datasheet; ComponentLink2URL: http://www.ti.com/general/docs/lit/getliterature.tsp?genericPartNumber=MSP430F2410&fileType=pdf; ComponentLink3Description: Package Specification; ComponentLink3URL: http://www.ti.com/lit/ml/mtqf008a/mtqf008a.pdf
footprint TI-PM64_N (QFP, 64-Leads, Body 10x10mm, Pitch 0.5mm, IPC Medium Density)
pins: 1 DVCC (power) "Digital supply voltage, positive terminal. Supplies all digital parts.", 2 P6.3/A3 (io), 3 P6.4/A4 (io), 4 P6.5/A5 (io), 5 P6.6/A6 (io), 6 P6.7/A7/SVSIN (io), 7 VREF+ (out) "Output of positive terminal of the reference voltage in the ADC12", 8 XIN "Input port for crystal oscillator XT1. Standard or watch crystals can be connected.", 9 XOUT "Output port for crystal oscillator XT1. Standard or watch crystals can be connected.", 10 VEREF+ (in) "Input for an external reference voltage", 11 VREF-/VEREF-, 12 P1.0/TACLK/CAOUT (io), 13 P1.1/TA0 (io), 14 P1.2/TA1 (io), 15 P1.3/TA2 (io), 16 P1.4/SMCLK (io), 17 P1.5/TA0 (io), 18 P1.6/TA1 (io), 19 P1.7/TA2 (io), 20 P2.0/ACLK/CA2 (io), 21 P2.1/TAINCLK/CA3 (io), 22 P2.2/CAOUT/TA0/CA4 (io), 23 P2.3/CA0/TA1 (io), 24 P2.4/CA1/TA2 (io), 25 P2.5/ROSC/CA5 (io), 26 P2.6/ADC12CLK/CA6 (io), 27 P2.7/TA0/CA7 (io), 28 P3.0/UCB0STE/UCA0CLK (io), 29 P3.1/UCB0SIMO/UCB0SDA (io), 30 P3.2/UCB0SOMI/UCB0SCL (io), 31 P3.3/UCB0CLK/UCA0STE (io), 32 P3.4/UCA0TXD/UCA0SIMO (io), 33 P3.5/UCA0RXD/UCA0SOMI (io), 34 P3.6/UCA1TXD/UCA1SIMO (io), 35 P3.7/UCA1RXD/UCA1SOMI (io), 36 P4.0/TB0 (io), 37 P4.1/TB1 (io), 38 P4.2/TB2 (io), 39 P4.3/TB3 (io), 40 P4.4/TB4 (io), 41 P4.5/TB5 (io), 42 P4.6/TB6 (io), 43 P4.7/TBCLK (io), 44 P5.0/UCB1STE/UCA1CLK (io), 45 P5.1/UCB1SIMO/UCB1SDA (io), 46 P5.2/UCB1SOMI/UCB1SCL (io), 47 P5.3/UCB1CLK/UCA1STE (io), 48 P5.4/MCLK (io), 49 P5.5/SMCLK (io), 50 P5.6/ACLK (io), 51 P5.7/TBOUTH/SVSOUT (io), 52 XT2OUT "Output terminal of crystal oscillator XT2", 53 XT2IN "Input port for crystal oscillator XT2", 54 TDO/TDI (io), 55 TDI/TCLK (in), 56 TMS (in) "Test mode select. TMS is used as an input port for device programming and test.", 57 TCK (in) "Test clock (JTAG). TCK is the clock input port for device programming test and bootstrap loader start", 58 ~{RST}/NMI (in), 59 P6.0/A0 (io), 60 P6.1/A1 (io), 61 P6.2/A2 (io), 62 AVSS (power) "Analog supply voltage, negative terminal. Supplies only the analog portion of ADC12 and DAC12.", 63 DVSS (power) "Digital supply voltage, negative terminal. Supplies all digital parts.", 64 AVCC (power) "Analog supply voltage, positive terminal. Supplies only the analog portion of ADC12 and DAC12."

## MSP430F2410TPMR
designator U?
16 MHz Mixed Signal Microcontroller with 56 KB Flash, 4096 B SRAM and 48 GPIOs, -40 to 105 degC, 64-pin QFP (PM), Green (RoHS & no Sb/Br); Manufacturer: Texas Instruments; PartNumber: MSP430F2410TPMR; ADC: 12-bit SAR; ADC Channels: 8; Brown Out Reset: Yes; Flash(KB): 56; Frequency(MHz): 16; GPIO: 48; Multiplier: 16x16; SRAM(B): 4096; SubFamily: 2 Series, Extended Temp; Timers - 16-bit: 2; DatasheetVersion: SLAS547H; PackageVersion: 4040152/C; PackageReference: PM64; PackageDescription: 64-Pin Plastic Quad Flat Pack, Body 10 x 10 mm, Pitch 0.5 mm; Supplier 1: Digi-Key; Supplier Part Number 1: 296-32648-ND; Supplier 2: Farnell; Supplier Part Number 2: 1649435; Supplier 3: Newark; Supplier Part Number 3: 65M1701; Supplier 4: Mouser; Supplier Part Number 4: 595-MSP430F2410TPM; Comparators: Yes; Eco-Plan: Green (RoHS & no Sb/Br); SVS: Yes; USCI_A (UART/LIN/IrDA/SPI): 2; USCI_B (I2C & SPI): 2; Watchdog: Yes; Mounting Technology: Surface Mount; Code_JEDEC: MS-026; ComponentLink1Description: Manufacturer URL; ComponentLink1URL: http://www.ti.com/; ComponentLink2Description: Datasheet; ComponentLink2URL: http://www.ti.com/general/docs/lit/getliterature.tsp?genericPartNumber=MSP430F2410&fileType=pdf; ComponentLink3Description: Package Specification; ComponentLink3URL: http://www.ti.com/lit/ml/mtqf008a/mtqf008a.pdf
footprint TI-PM64_N (QFP, 64-Leads, Body 10x10mm, Pitch 0.5mm, IPC Medium Density)
pins: 1 DVCC (power) "Digital supply voltage, positive terminal. Supplies all digital parts.", 2 P6.3/A3 (io), 3 P6.4/A4 (io), 4 P6.5/A5 (io), 5 P6.6/A6 (io), 6 P6.7/A7/SVSIN (io), 7 VREF+ (out) "Output of positive terminal of the reference voltage in the ADC12", 8 XIN "Input port for crystal oscillator XT1. Standard or watch crystals can be connected.", 9 XOUT "Output port for crystal oscillator XT1. Standard or watch crystals can be connected.", 10 VEREF+ (in) "Input for an external reference voltage", 11 VREF-/VEREF-, 12 P1.0/TACLK/CAOUT (io), 13 P1.1/TA0 (io), 14 P1.2/TA1 (io), 15 P1.3/TA2 (io), 16 P1.4/SMCLK (io), 17 P1.5/TA0 (io), 18 P1.6/TA1 (io), 19 P1.7/TA2 (io), 20 P2.0/ACLK/CA2 (io), 21 P2.1/TAINCLK/CA3 (io), 22 P2.2/CAOUT/TA0/CA4 (io), 23 P2.3/CA0/TA1 (io), 24 P2.4/CA1/TA2 (io), 25 P2.5/ROSC/CA5 (io), 26 P2.6/ADC12CLK/CA6 (io), 27 P2.7/TA0/CA7 (io), 28 P3.0/UCB0STE/UCA0CLK (io), 29 P3.1/UCB0SIMO/UCB0SDA (io), 30 P3.2/UCB0SOMI/UCB0SCL (io), 31 P3.3/UCB0CLK/UCA0STE (io), 32 P3.4/UCA0TXD/UCA0SIMO (io), 33 P3.5/UCA0RXD/UCA0SOMI (io), 34 P3.6/UCA1TXD/UCA1SIMO (io), 35 P3.7/UCA1RXD/UCA1SOMI (io), 36 P4.0/TB0 (io), 37 P4.1/TB1 (io), 38 P4.2/TB2 (io), 39 P4.3/TB3 (io), 40 P4.4/TB4 (io), 41 P4.5/TB5 (io), 42 P4.6/TB6 (io), 43 P4.7/TBCLK (io), 44 P5.0/UCB1STE/UCA1CLK (io), 45 P5.1/UCB1SIMO/UCB1SDA (io), 46 P5.2/UCB1SOMI/UCB1SCL (io), 47 P5.3/UCB1CLK/UCA1STE (io), 48 P5.4/MCLK (io), 49 P5.5/SMCLK (io), 50 P5.6/ACLK (io), 51 P5.7/TBOUTH/SVSOUT (io), 52 XT2OUT "Output terminal of crystal oscillator XT2", 53 XT2IN "Input port for crystal oscillator XT2", 54 TDO/TDI (io), 55 TDI/TCLK (in), 56 TMS (in) "Test mode select. TMS is used as an input port for device programming and test.", 57 TCK (in) "Test clock (JTAG). TCK is the clock input port for device programming test and bootstrap loader start", 58 ~{RST}/NMI (in), 59 P6.0/A0 (io), 60 P6.1/A1 (io), 61 P6.2/A2 (io), 62 AVSS (power) "Analog supply voltage, negative terminal. Supplies only the analog portion of ADC12 and DAC12.", 63 DVSS (power) "Digital supply voltage, negative terminal. Supplies all digital parts.", 64 AVCC (power) "Analog supply voltage, positive terminal. Supplies only the analog portion of ADC12 and DAC12."

## MSP430F2410TRGCR
designator U?
16 MHz Mixed Signal Microcontroller with 56 KB Flash, 4096 B SRAM and 48 GPIOs, -40 to 105 degC, 64-pin QFN (RGC), Green (RoHS & no Sb/Br); Manufacturer: Texas Instruments; PartNumber: MSP430F2410TRGCR; ADC: 12-bit SAR; ADC Channels: 8; Brown Out Reset: Yes; Flash(KB): 56; Frequency(MHz): 16; GPIO: 48; Multiplier: 16x16; SRAM(B): 4096; SubFamily: 2 Series, Extended Temp; Timers - 16-bit: 2; DatasheetVersion: SLAS547H; PackageVersion: 4204106/F; PackageReference: RGC64; PackageDescription: 64-Pin Plastic Flat Pack, Body 9 x 9 mm, Pitch 0.5 mm; Supplier 1: Digi-Key; Supplier Part Number 1: 296-22929-2-ND; Supplier 2: Digi-Key; Supplier Part Number 2: 296-22929-1-ND; Supplier 3: Digi-Key; Supplier Part Number 3: 296-22929-6-ND; Supplier 4: Newark; Supplier Part Number 4: 65M1702; Supplier 5: Mouser; Supplier Part Number 5: 595-MSP430F2410TPMR; Comparators: Yes; Eco-Plan: Green (RoHS & no Sb/Br); SVS: Yes; USCI_A (UART/LIN/IrDA/SPI): 2; USCI_B (I2C & SPI): 2; Watchdog: Yes; Mounting Technology: Surface Mount; ComponentLink1Description: Manufacturer URL; ComponentLink1URL: http://www.ti.com/; ComponentLink2Description: Datasheet; ComponentLink2URL: http://www.ti.com/general/docs/lit/getliterature.tsp?genericPartNumber=MSP430F2410&fileType=pdf; ComponentLink3Description: Package Specification; ComponentLink3URL: http://www.ti.com/lit/ds/symlink/ucd3138.pdf
footprint TI-RGC64-4250X4250TP_N (QFN, 64-Leads, Body 9x9mm, Pitch 0.5mm, Thermal Pad 4.25x4.25mm, IPC Medium Density)
pins: 1 DVCC (power) "Digital supply voltage, positive terminal. Supplies all digital parts.", 2 P6.3/A3 (io), 3 P6.4/A4 (io), 4 P6.5/A5 (io), 5 P6.6/A6 (io), 6 P6.7/A7/SVSIN (io), 7 VREF+ (out) "Positive output of the reference voltage in the ADC12", 8 XIN "Input for crystal oscillator XT1. Standard or watch crystals can be connected.", 9 XOUT "Output for crystal oscillator XT1. Standard or watch crystals can be connected.", 10 VEREF+ (in) "Input for an external reference voltage", 11 VREF-/VEREF-, 12 P1.0/TACLK/CAOUT (io), 13 P1.1/TA0 (io), 14 P1.2/TA1 (io), 15 P1.3/TA2 (io), 16 P1.4/SMCLK (io), 17 P1.5/TA0 (io), 18 P1.6/TA1 (io), 19 P1.7/TA2 (io), 20 P2.0/ACLK/CA2 (io), 21 P2.1/TAINCLK/CA3 (io), 22 P2.2/CAOUT/TA0/CA4 (io), 23 P2.3/CA0/TA1 (io), 24 P2.4/CA1/TA2 (io), 25 P2.5/ROSC/CA5 (io), 26 P2.6/ADC12CLK/CA6 (io), 27 P2.7/TA0/CA7 (io), 28 P3.0/UCB0STE/UCA0CLK (io), 29 P3.1/UCB0SIMO/UCB0SDA (io), 30 P3.2/UCB0SOMI/UCB0SCL (io), 31 P3.3/UCB0CLK/UCA0STE (io), 32 P3.4/UCA0TXD/UCA0SIMO (io), 33 P3.5/UCA0RXD/UCA0SOMI (io), 34 P3.6/UCA1TXD/UCA1SIMO (io), 35 P3.7/UCA1RXD/UCA1SOMI (io), 36 P4.0/TB0 (io), 37 P4.1/TB1 (io), 38 P4.2/TB2 (io), 39 P4.3/TB3 (io), 40 P4.4/TB4 (io), 41 P4.5/TB5 (io), 42 P4.6/TB6 (io), 43 P4.7/TBCLK (io), 44 P5.0/UCB1STE/UCA1CLK (io), 45 P5.1/UCB1SIMO/UCB1SDA (io), 46 P5.2/UCB1SOMI/UCB1SCL (io), 47 P5.3/UCB1CLK/UCA1STE (io), 48 P5.4/MCLK (io), 49 P5.5/SMCLK (io), 50 P5.6/ACLK (io), 51 P5.7/TBOUTH/SVSOUT (io), 52 XT2OUT "Output of crystal oscillator XT2", 53 XT2IN "Input for crystal oscillator XT2", 54 TDO/TDI (io), 55 TDI/TCLK (in), 56 TMS (in) "Test mode select. TMS is used as an input port for device programming and test.", 57 TCK (in) "Test clock (JTAG). TCK is the clock input port for device programming test and bootstrap loader start.", 58 ~{RST}/NMI (in), 59 P6.0/A0 (io), 60 P6.1/A1 (io), 61 P6.2/A2 (io), 62 AVSS (power) "Analog supply voltage, negative terminal. Supplies only the analog portion of ADC12.", 63 DVSS (power) "Digital supply voltage, negative terminal. Supplies all digital parts.", 64 AVCC (power) "Analog supply voltage, positive terminal. Supplies only the analog portion of ADC12.", 65 QFN PAD (power) "QFN package pad connection to DVSS recommended (RGC package only)"

## MSP430F2410TRGCT
designator U?
16 MHz Mixed Signal Microcontroller with 56 KB Flash, 4096 B SRAM and 48 GPIOs, -40 to 105 degC, 64-pin QFN (RGC), Green (RoHS & no Sb/Br); Manufacturer: Texas Instruments; PartNumber: MSP430F2410TRGCT; ADC: 12-bit SAR; ADC Channels: 8; Brown Out Reset: Yes; Flash(KB): 56; Frequency(MHz): 16; GPIO: 48; Multiplier: 16x16; SRAM(B): 4096; SubFamily: 2 Series, Extended Temp; Timers - 16-bit: 2; DatasheetVersion: SLAS547H; PackageVersion: 4204106/F; PackageReference: RGC64; PackageDescription: 64-Pin Plastic Flat Pack, Body 9 x 9 mm, Pitch 0.5 mm; Supplier 1: Digi-Key; Supplier Part Number 1: 296-22930-2-ND; Supplier 2: Digi-Key; Supplier Part Number 2: 296-22930-1-ND; Supplier 3: Digi-Key; Supplier Part Number 3: 296-22930-6-ND; Supplier 4: Farnell; Supplier Part Number 4: 1903434; Supplier 5: Newark; Supplier Part Number 5: 65M1703; Supplier 6: Mouser; Supplier Part Number 6: 595-MSP430F2410TRGCR; Comparators: Yes; Eco-Plan: Green (RoHS & no Sb/Br); SVS: Yes; USCI_A (UART/LIN/IrDA/SPI): 2; USCI_B (I2C & SPI): 2; Watchdog: Yes; Mounting Technology: Surface Mount; ComponentLink1Description: Manufacturer URL; ComponentLink1URL: http://www.ti.com/; ComponentLink2Description: Datasheet; ComponentLink2URL: http://www.ti.com/general/docs/lit/getliterature.tsp?genericPartNumber=MSP430F2410&fileType=pdf; ComponentLink3Description: Package Specification; ComponentLink3URL: http://www.ti.com/lit/ds/symlink/ucd3138.pdf
footprint TI-RGC64-4250X4250TP_N (QFN, 64-Leads, Body 9x9mm, Pitch 0.5mm, Thermal Pad 4.25x4.25mm, IPC Medium Density)
pins: 1 DVCC (power) "Digital supply voltage, positive terminal. Supplies all digital parts.", 2 P6.3/A3 (io), 3 P6.4/A4 (io), 4 P6.5/A5 (io), 5 P6.6/A6 (io), 6 P6.7/A7/SVSIN (io), 7 VREF+ (out) "Positive output of the reference voltage in the ADC12", 8 XIN "Input for crystal oscillator XT1. Standard or watch crystals can be connected.", 9 XOUT "Output for crystal oscillator XT1. Standard or watch crystals can be connected.", 10 VEREF+ (in) "Input for an external reference voltage", 11 VREF-/VEREF-, 12 P1.0/TACLK/CAOUT (io), 13 P1.1/TA0 (io), 14 P1.2/TA1 (io), 15 P1.3/TA2 (io), 16 P1.4/SMCLK (io), 17 P1.5/TA0 (io), 18 P1.6/TA1 (io), 19 P1.7/TA2 (io), 20 P2.0/ACLK/CA2 (io), 21 P2.1/TAINCLK/CA3 (io), 22 P2.2/CAOUT/TA0/CA4 (io), 23 P2.3/CA0/TA1 (io), 24 P2.4/CA1/TA2 (io), 25 P2.5/ROSC/CA5 (io), 26 P2.6/ADC12CLK/CA6 (io), 27 P2.7/TA0/CA7 (io), 28 P3.0/UCB0STE/UCA0CLK (io), 29 P3.1/UCB0SIMO/UCB0SDA (io), 30 P3.2/UCB0SOMI/UCB0SCL (io), 31 P3.3/UCB0CLK/UCA0STE (io), 32 P3.4/UCA0TXD/UCA0SIMO (io), 33 P3.5/UCA0RXD/UCA0SOMI (io), 34 P3.6/UCA1TXD/UCA1SIMO (io), 35 P3.7/UCA1RXD/UCA1SOMI (io), 36 P4.0/TB0 (io), 37 P4.1/TB1 (io), 38 P4.2/TB2 (io), 39 P4.3/TB3 (io), 40 P4.4/TB4 (io), 41 P4.5/TB5 (io), 42 P4.6/TB6 (io), 43 P4.7/TBCLK (io), 44 P5.0/UCB1STE/UCA1CLK (io), 45 P5.1/UCB1SIMO/UCB1SDA (io), 46 P5.2/UCB1SOMI/UCB1SCL (io), 47 P5.3/UCB1CLK/UCA1STE (io), 48 P5.4/MCLK (io), 49 P5.5/SMCLK (io), 50 P5.6/ACLK (io), 51 P5.7/TBOUTH/SVSOUT (io), 52 XT2OUT "Output of crystal oscillator XT2", 53 XT2IN "Input for crystal oscillator XT2", 54 TDO/TDI (io), 55 TDI/TCLK (in), 56 TMS (in) "Test mode select. TMS is used as an input port for device programming and test.", 57 TCK (in) "Test clock (JTAG). TCK is the clock input port for device programming test and bootstrap loader start.", 58 ~{RST}/NMI (in), 59 P6.0/A0 (io), 60 P6.1/A1 (io), 61 P6.2/A2 (io), 62 AVSS (power) "Analog supply voltage, negative terminal. Supplies only the analog portion of ADC12.", 63 DVSS (power) "Digital supply voltage, negative terminal. Supplies all digital parts.", 64 AVCC (power) "Analog supply voltage, positive terminal. Supplies only the analog portion of ADC12.", 65 QFN PAD (power) "QFN package pad connection to DVSS recommended (RGC package only)"

## MSP430F2416TPM
designator U?
16 MHz Mixed Signal Microcontroller with 92 KB Flash, 4096 B SRAM and 48 GPIOs, -40 to 105 degC, 64-pin QFP (PM), Green (RoHS & no Sb/Br); Manufacturer: Texas Instruments; PartNumber: MSP430F2416TPM; ADC: 12-bit SAR; ADC Channels: 8; Brown Out Reset: Yes; Flash(KB): 92; Frequency(MHz): 16; GPIO: 48; Multiplier: 16x16; SRAM(B): 4096; SubFamily: 2 Series, Extended Temp; Timers - 16-bit: 2; DatasheetVersion: SLAS541K; PackageVersion: 4040152/C; PackageReference: PM64; PackageDescription: 64-Pin Plastic Quad Flat Pack, Body 10 x 10 mm, Pitch 0.5 mm; Supplier 1: Digi-Key; Supplier Part Number 1: 296-26215-2-ND; Supplier 2: Digi-Key; Supplier Part Number 2: 296-26215-1-ND; Supplier 3: Digi-Key; Supplier Part Number 3: 296-26215-6-ND; Supplier 4: Farnell; Supplier Part Number 4: 1649436; Supplier 5: Newark; Supplier Part Number 5: 65M1704; Supplier 6: Mouser; Supplier Part Number 6: 595-MSP430F2410TRGCT; Comparators: Yes; Eco-Plan: Green (RoHS & no Sb/Br); SVS: Yes; Temp Sensor: Yes; USCI_A (UART/LIN/IrDA/SPI): 2; USCI_B (I2C & SPI): 2; Watchdog: Yes; Mounting Technology: Surface Mount; Code_JEDEC: MS-026; ComponentLink1Description: Manufacturer URL; ComponentLink1URL: http://www.ti.com/; ComponentLink2Description: Datasheet; ComponentLink2URL: http://www.ti.com/general/docs/lit/getliterature.tsp?genericPartNumber=MSP430F2416&fileType=pdf; ComponentLink3Description: Package Specification; ComponentLink3URL: http://www.ti.com/lit/ml/mtqf008a/mtqf008a.pdf
footprint TI-PM64_N (QFP, 64-Leads, Body 10x10mm, Pitch 0.5mm, IPC Medium Density)
pins: 1 DVCC1 (power) "Digital supply voltage, positive terminal. Supplies all digital parts.", 2 P6.3/A3 (io), 3 P6.4/A4 (io), 4 P6.5/A5 (io), 5 P6.6/A6 (io), 6 P6.7/A7/SVSIN (io), 7 VREF+ (out) "Output of positive terminal of the reference voltage in the ADC12", 8 XIN "Input port for crystal oscillator XT1. Standard or watch crystals can be connected.", 9 XOUT "Output port for crystal oscillator XT1. Standard or watch crystals can be connected.", 10 VEREF+ (in) "Input for an external reference voltage", 11 VREF-/VEREF-, 12 P1.0/TACLK/CAOUT (io), 13 P1.1/TA0 (io), 14 P1.2/TA1 (io), 15 P1.3/TA2 (io), 16 P1.4/SMCLK (io), 17 P1.5/TA0 (io), 18 P1.6/TA1 (io), 19 P1.7/TA2 (io), 20 P2.0/ACLK/CA2 (io), 21 P2.1/TAINCLK/CA3 (io), 22 P2.2/CAOUT/TA0/CA4 (io), 23 P2.3/CA0/TA1 (io), 24 P2.4/CA1/TA2 (io), 25 P2.5/ROSC/CA5 (io), 26 P2.6/ADC12CLK/CA6 (io), 27 P2.7/TA0/CA7 (io), 28 P3.0/UCB0STE/UCA0CLK (io), 29 P3.1/UCB0SIMO/UCB0SDA (io), 30 P3.2/UCB0SOMI/UCB0SCL (io), 31 P3.3/UCB0CLK/UCA0STE (io), 32 P3.4/UCA0TXD/UCA0SIMO (io), 33 P3.5/UCA0RXD/UCA0SOMI (io), 34 P3.6/UCA1TXD/UCA1SIMO (io), 35 P3.7/UCA1RXD/UCA1SOMI (io), 36 P4.0/TB0 (io), 37 P4.1/TB1 (io), 38 P4.2/TB2 (io), 39 P4.3/TB3 (io), 40 P4.4/TB4 (io), 41 P4.5/TB5 (io), 42 P4.6/TB6 (io), 43 P4.7/TBCLK (io), 44 P5.0/UCB1STE/UCA1CLK (io), 45 P5.1/UCB1SIMO/UCB1SDA (io), 46 P5.2/UCB1SOMI/UCB1SCL (io), 47 P5.3/UCB1CLK/UCA1STE (io), 48 P5.4/MCLK (io), 49 P5.5/SMCLK (io), 50 P5.6/ACLK (io), 51 P5.7/TBOUTH/SVSOUT (io), 52 XT2OUT "Output terminal of crystal oscillator XT2", 53 XT2IN "Input port for crystal oscillator XT2", 54 TDO/TDI (io), 55 TDI/TCLK (in), 56 TMS (in) "Test mode select. TMS is used as an input port for device programming and test.", 57 TCK (in) "Test clock (JTAG). TCK is the clock input port for device programming test and bootstrap loader start", 58 ~{RST}/NMI (in), 59 P6.0/A0 (io), 60 P6.1/A1 (io), 61 P6.2/A2 (io), 62 AVSS (power) "Analog supply voltage, negative terminal. Supplies only the analog portion of ADC12 and DAC12.", 63 DVSS1 (power) "Digital supply voltage, negative terminal. Supplies all digital parts.", 64 AVCC (power) "Analog supply voltage, positive terminal. Supplies only the analog portion of ADC12 and DAC12."

## MSP430F2416TPMR
designator U?
16 MHz Mixed Signal Microcontroller with 92 KB Flash, 4096 B SRAM and 48 GPIOs, -40 to 105 degC, 64-pin QFP (PM), Green (RoHS & no Sb/Br); Manufacturer: Texas Instruments; PartNumber: MSP430F2416TPMR; ADC: 12-bit SAR; ADC Channels: 8; Brown Out Reset: Yes; Flash(KB): 92; Frequency(MHz): 16; GPIO: 48; Multiplier: 16x16; SRAM(B): 4096; SubFamily: 2 Series, Extended Temp; Timers - 16-bit: 2; DatasheetVersion: SLAS541K; PackageVersion: 4040152/C; PackageReference: PM64; PackageDescription: 64-Pin Plastic Quad Flat Pack, Body 10 x 10 mm, Pitch 0.5 mm; Supplier 1: Digi-Key; Supplier Part Number 1: 296-25295-ND; Supplier 2: Farnell; Supplier Part Number 2: 1649438; Supplier 3: Newark; Supplier Part Number 3: 61M7884; Supplier 4: Mouser; Supplier Part Number 4: 595-MSP430F2416TPM; Comparators: Yes; Eco-Plan: Green (RoHS & no Sb/Br); SVS: Yes; Temp Sensor: Yes; USCI_A (UART/LIN/IrDA/SPI): 2; USCI_B (I2C & SPI): 2; Watchdog: Yes; Mounting Technology: Surface Mount; Code_JEDEC: MS-026; ComponentLink1Description: Manufacturer URL; ComponentLink1URL: http://www.ti.com/; ComponentLink2Description: Datasheet; ComponentLink2URL: http://www.ti.com/general/docs/lit/getliterature.tsp?genericPartNumber=MSP430F2416&fileType=pdf; ComponentLink3Description: Package Specification; ComponentLink3URL: http://www.ti.com/lit/ml/mtqf008a/mtqf008a.pdf
footprint TI-PM64_N (QFP, 64-Leads, Body 10x10mm, Pitch 0.5mm, IPC Medium Density)
pins: 1 DVCC1 (power) "Digital supply voltage, positive terminal. Supplies all digital parts.", 2 P6.3/A3 (io), 3 P6.4/A4 (io), 4 P6.5/A5 (io), 5 P6.6/A6 (io), 6 P6.7/A7/SVSIN (io), 7 VREF+ (out) "Output of positive terminal of the reference voltage in the ADC12", 8 XIN "Input port for crystal oscillator XT1. Standard or watch crystals can be connected.", 9 XOUT "Output port for crystal oscillator XT1. Standard or watch crystals can be connected.", 10 VEREF+ (in) "Input for an external reference voltage", 11 VREF-/VEREF-, 12 P1.0/TACLK/CAOUT (io), 13 P1.1/TA0 (io), 14 P1.2/TA1 (io), 15 P1.3/TA2 (io), 16 P1.4/SMCLK (io), 17 P1.5/TA0 (io), 18 P1.6/TA1 (io), 19 P1.7/TA2 (io), 20 P2.0/ACLK/CA2 (io), 21 P2.1/TAINCLK/CA3 (io), 22 P2.2/CAOUT/TA0/CA4 (io), 23 P2.3/CA0/TA1 (io), 24 P2.4/CA1/TA2 (io), 25 P2.5/ROSC/CA5 (io), 26 P2.6/ADC12CLK/CA6 (io), 27 P2.7/TA0/CA7 (io), 28 P3.0/UCB0STE/UCA0CLK (io), 29 P3.1/UCB0SIMO/UCB0SDA (io), 30 P3.2/UCB0SOMI/UCB0SCL (io), 31 P3.3/UCB0CLK/UCA0STE (io), 32 P3.4/UCA0TXD/UCA0SIMO (io), 33 P3.5/UCA0RXD/UCA0SOMI (io), 34 P3.6/UCA1TXD/UCA1SIMO (io), 35 P3.7/UCA1RXD/UCA1SOMI (io), 36 P4.0/TB0 (io), 37 P4.1/TB1 (io), 38 P4.2/TB2 (io), 39 P4.3/TB3 (io), 40 P4.4/TB4 (io), 41 P4.5/TB5 (io), 42 P4.6/TB6 (io), 43 P4.7/TBCLK (io), 44 P5.0/UCB1STE/UCA1CLK (io), 45 P5.1/UCB1SIMO/UCB1SDA (io), 46 P5.2/UCB1SOMI/UCB1SCL (io), 47 P5.3/UCB1CLK/UCA1STE (io), 48 P5.4/MCLK (io), 49 P5.5/SMCLK (io), 50 P5.6/ACLK (io), 51 P5.7/TBOUTH/SVSOUT (io), 52 XT2OUT "Output terminal of crystal oscillator XT2", 53 XT2IN "Input port for crystal oscillator XT2", 54 TDO/TDI (io), 55 TDI/TCLK (in), 56 TMS (in) "Test mode select. TMS is used as an input port for device programming and test.", 57 TCK (in) "Test clock (JTAG). TCK is the clock input port for device programming test and bootstrap loader start", 58 ~{RST}/NMI (in), 59 P6.0/A0 (io), 60 P6.1/A1 (io), 61 P6.2/A2 (io), 62 AVSS (power) "Analog supply voltage, negative terminal. Supplies only the analog portion of ADC12 and DAC12.", 63 DVSS1 (power) "Digital supply voltage, negative terminal. Supplies all digital parts.", 64 AVCC (power) "Analog supply voltage, positive terminal. Supplies only the analog portion of ADC12 and DAC12."

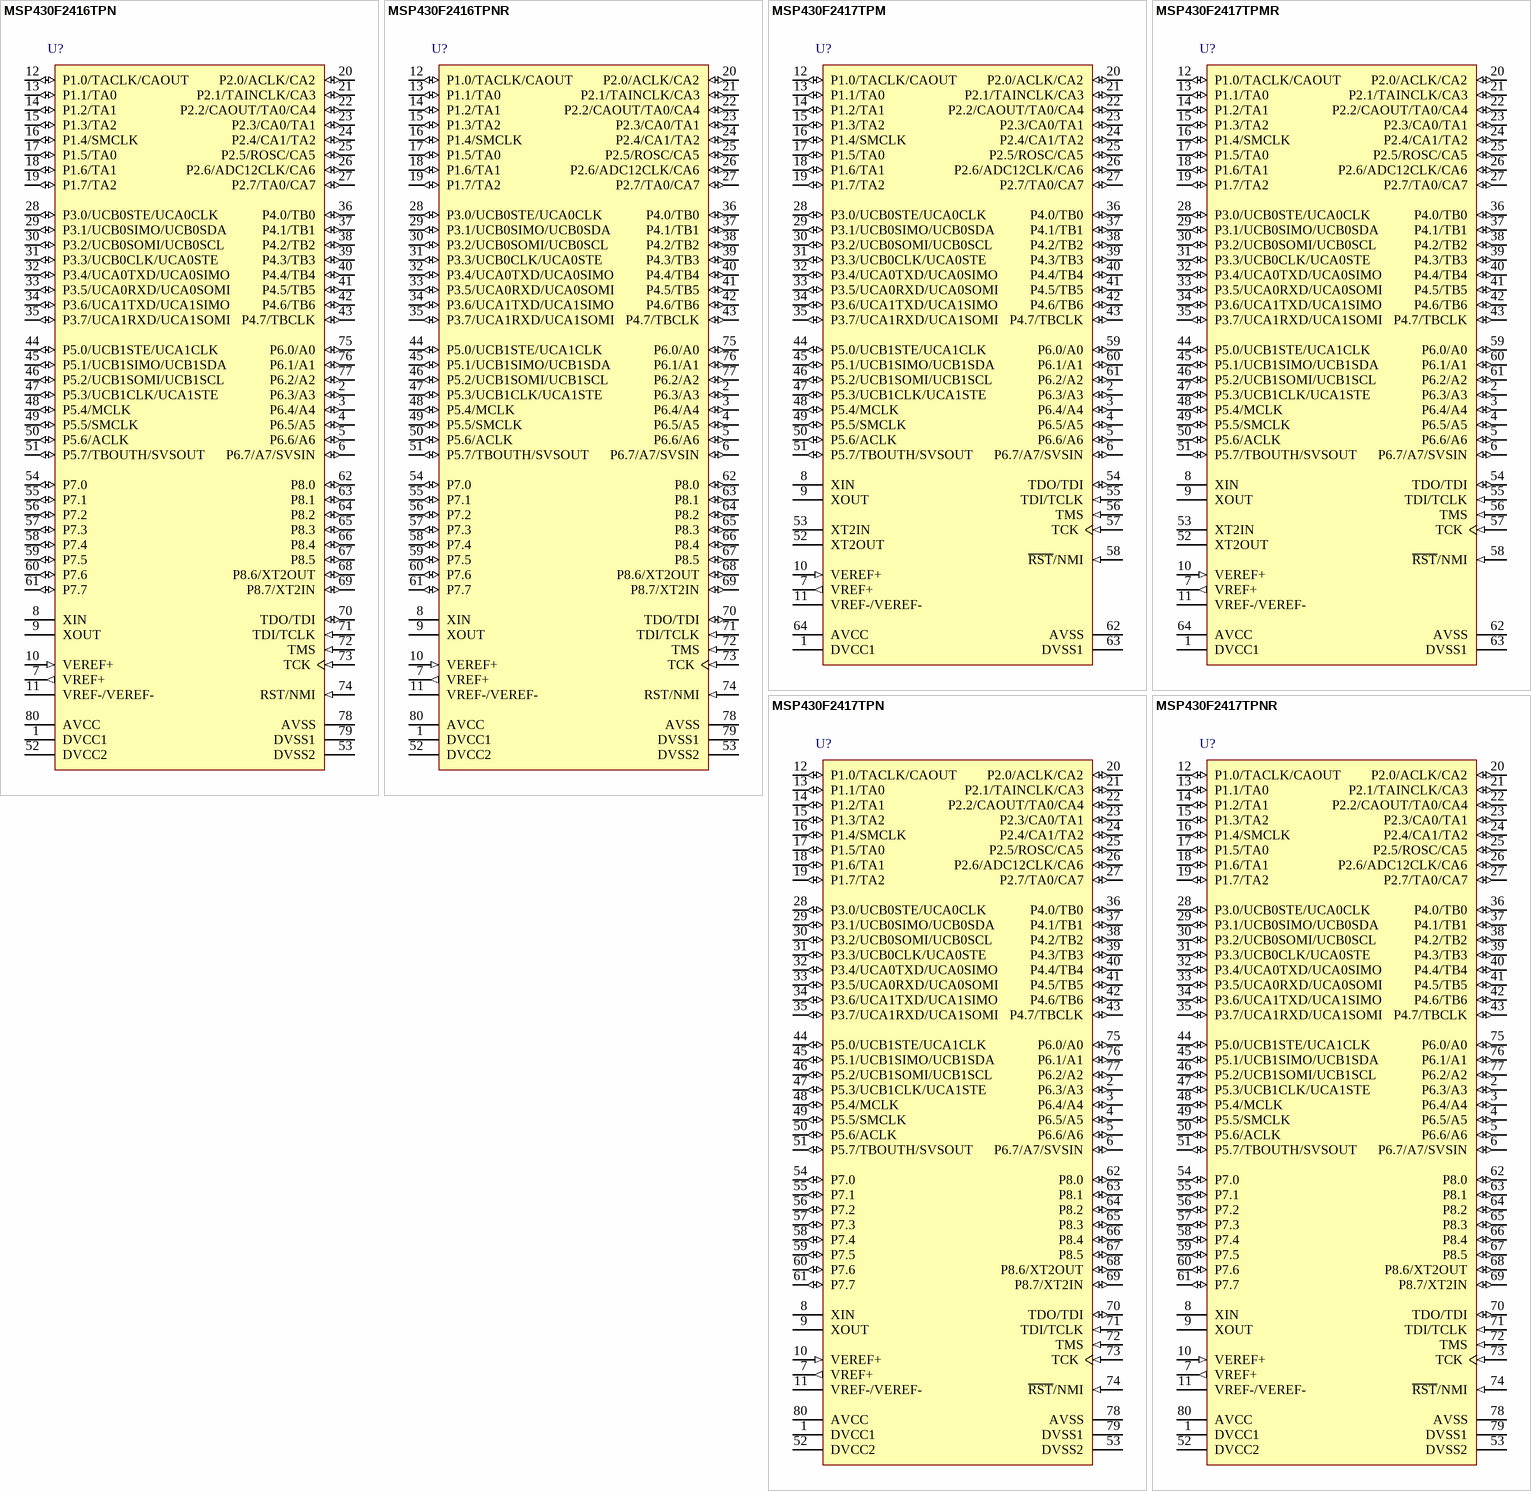
[diagram p70: symbols MSP430F2416TPN to MSP430F2417TPNR]